# Altium footprint library Resistors.PcbLib: 4 footprints
Each footprint in its own frame and in the unit in brackets; x right, y up, seen from the top. Pads: shape width x height; smd on the part's side, far side on the other; paste and mask are expansions set on the pad; w line width, h text height; cw(c..) or ccw(c..) is an arc to the next point about the centre after c.
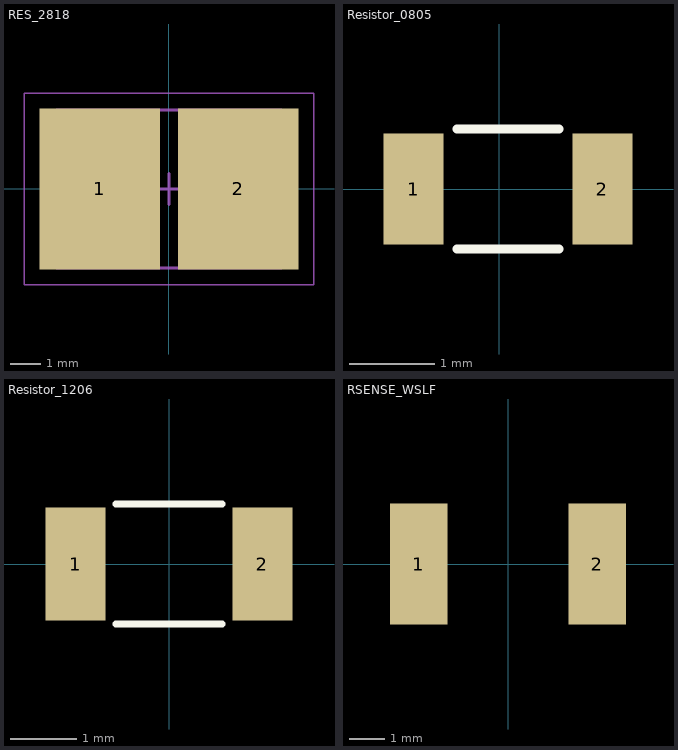
[diagram p0: the footprints below, top view; thin cyan lines are the x and y axes]

## RES_2818 [mm] "Rsense resistor package"
height 1.9
pads (2):
  rect 3.95x5.3 smd: 1(-2.275,0) 2(2.275,0)
Mechanical 13:
  lines w0.1: -3.7,-2.6 -3.7,2.6 3.7,2.6 3.7,-2.6 -3.7,-2.6
Mechanical 15:
  lines w0.05: -4.75,-3.15 -4.75,3.15 4.75,3.15 4.75,-3.15 -4.75,-3.15
  lines w0.1: -0.5,0 0.5,0 ; 0,-0.5 0,0.5
3D body: height 1.9, standoff 0, extent -0.8,-2.6 0.8,2.6
3D body: height 1.9, standoff 0, extent -3.7,-2.6 -0.8,2.6
3D body: height 1.9, standoff 0, extent 0.8,-2.6 3.7,2.6

## Resistor_0805 [mm]
pads (2):
  rect 0.7x1.3 smd: 1(-1,0) 2(1.2,0)
Top Overlay:
  lines w0.1: -0.5,-0.7 0.7,-0.7 ; -0.5,0.7 0.7,0.7
3D body "R_0805.step": height 0.5, standoff 0, extent -0.9,-0.625 1.1,0.625

## Resistor_1206 [mm]
pads (2):
  rect 0.9x1.7 smd: 1(-1.4,0) 2(1.4,0)
Top Overlay:
  lines w0.1: -0.8,-0.9 0.8,-0.9 ; -0.8,0.9 0.8,0.9
3D body: height 0.92, standoff -0.53, extent -1,-1 -1,-1
3D body "R_1206.step": height 0.55, standoff 0, extent -1.6,-0.8 1.6,0.8

## RSENSE_WSLF [mm] "Part specific foot print for 2mOhm current sense resistor"
height 0.71
pads (2):
  rect 1.62x3.4 smd: 1(-2.5,0) 2(2.5,0)